# Altium integrated library Cypress PLD Delta39K.IntLib: 82 symbols (part 17 of 21)
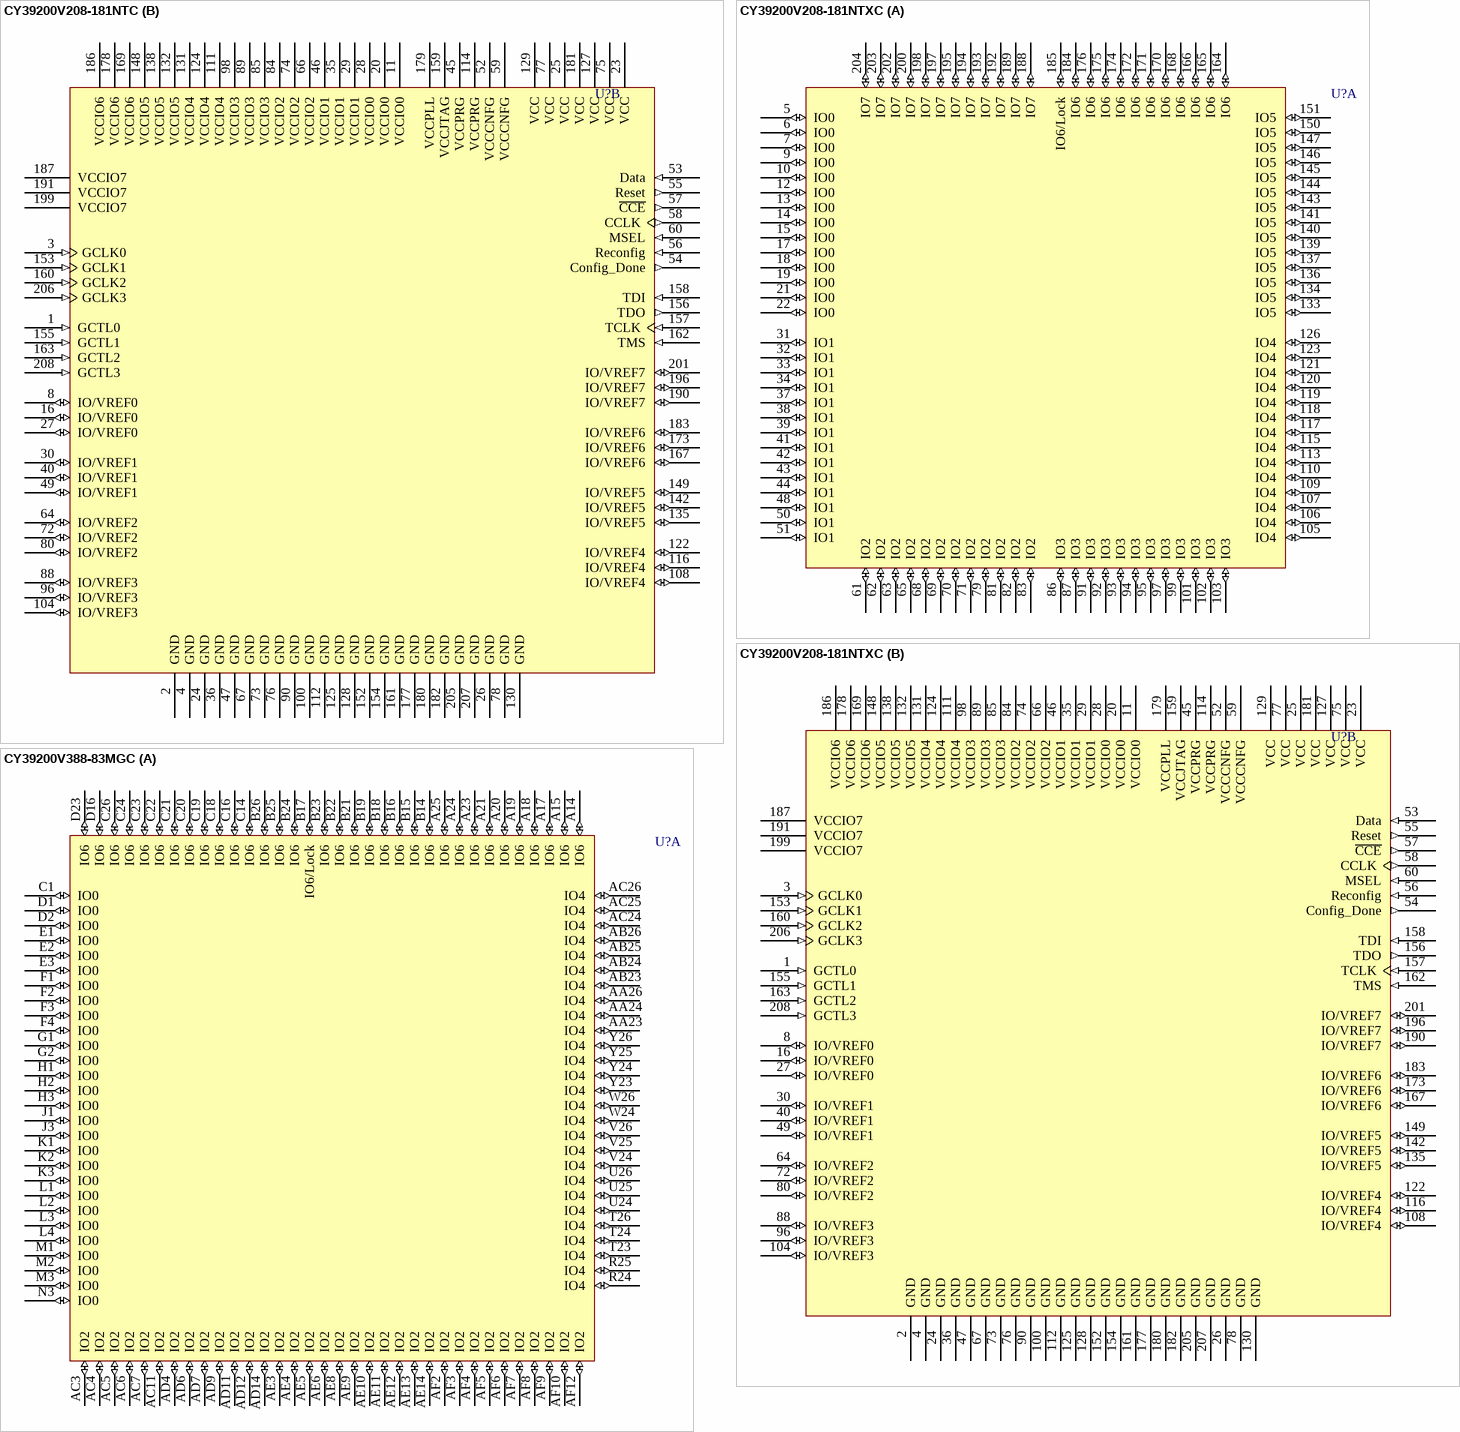
[diagram p94: symbols CY39200V208-181NTC to CY39200V388-83MGC]

## CY39200V208-181NTC
designator U?
Delta39K ISR CPLD, 3.3V/2.5V, 200K Gates, 181 MHz, 208-Lead EQFP, Commercial Grade; Published: 6-Oct-2005; LatestRevisionDate: 13-Apr-2006; LatestRevisionNote: IPC-7351 Footprint Added.; DatasheetVersion: revI, Mar-2005; PackageVersion: Mar-2002; PackageReference: NT208; Publisher: Altium Limited; PackageDescription: 208-Pin Plastic Shrink Quad Flat Pack 0.5 mm Pitch; ComponentLink1Description: Manufacturer Link; ComponentLink1URL: http://www.cypress.com/; ComponentLink2Description: Datasheet; ComponentLink2URL: http://www.cypress.com/portal/server.pt/gateway/PTARGS_0_601270_1522_209_0_43/http%3B/sjapp20.mis.cypress.com%3B7001/publishedcontent/publish/design_resources/datasheets/contents/cy39030v_5.pdf
footprint NT208_N (Shrink QFP, 208-Leads, Body 28x28mm, Pitch 0.5mm, IPC Medium Density)
footprint NT208_L (Shrink QFP, 208-Leads, Body 28x28mm, Pitch 0.5mm, IPC High Density)
footprint NT208_M (Shrink QFP, 208-Leads, Body 28x28mm, Pitch 0.5mm, IPC Low Density)
3D model CY39200V208-NT208 (208-Pin Plastic Shrink Quad Flat Pack 0.5 mm Pitch)
part A pins: 5 IO0 (io) "IO for Bank 0", 6 IO0 (io) "IO for Bank 0", 7 IO0 (io) "IO for Bank 0", 9 IO0 (io) "IO for Bank 0", 10 IO0 (io) "IO for Bank 0", 12 IO0 (io) "IO for Bank 0", 13 IO0 (io) "IO for Bank 0", 14 IO0 (io) "IO for Bank 0", 15 IO0 (io) "IO for Bank 0", 17 IO0 (io) "IO for Bank 0", 18 IO0 (io) "IO for Bank 0", 19 IO0 (io) "IO for Bank 0", 21 IO0 (io) "IO for Bank 0", 22 IO0 (io) "IO for Bank 0", 31 IO1 (io) "IO for Bank 1", 32 IO1 (io) "IO for Bank 1", 33 IO1 (io) "IO for Bank 1", 34 IO1 (io) "IO for Bank 1", 37 IO1 (io) "IO for Bank 1", 38 IO1 (io) "IO for Bank 1", 39 IO1 (io) "IO for Bank 1", 41 IO1 (io) "IO for Bank 1", 42 IO1 (io) "IO for Bank 1", 43 IO1 (io) "IO for Bank 1", 44 IO1 (io) "IO for Bank 1", 48 IO1 (io) "IO for Bank 1", 50 IO1 (io) "IO for Bank 1", 51 IO1 (io) "IO for Bank 1", 61 IO2 (io) "IO for Bank 2", 62 IO2 (io) "IO for Bank 2", 63 IO2 (io) "IO for Bank 2", 65 IO2 (io) "IO for Bank 2", 68 IO2 (io) "IO for Bank 2", 69 IO2 (io) "IO for Bank 2", 70 IO2 (io) "IO for Bank 2", 71 IO2 (io) "IO for Bank 2", 79 IO2 (io) "IO for Bank 2", 81 IO2 (io) "IO for Bank 2", 82 IO2 (io) "IO for Bank 2", 83 IO2 (io) "IO for Bank 2", 86 IO3 (io) "IO for Bank 3", 87 IO3 (io) "IO for Bank 3", 91 IO3 (io) "IO for Bank 3", 92 IO3 (io) "IO for Bank 3", 93 IO3 (io) "IO for Bank 3", 94 IO3 (io) "IO for Bank 3", 95 IO3 (io) "IO for Bank 3", 97 IO3 (io) "IO for Bank 3", 99 IO3 (io) "IO for Bank 3", 101 IO3 (io) "IO for Bank 3", 102 IO3 (io) "IO for Bank 3", 103 IO3 (io) "IO for Bank 3", 105 IO4 (io) "IO for Bank 4", 106 IO4 (io) "IO for Bank 4", 107 IO4 (io) "IO for Bank 4", 109 IO4 (io) "IO for Bank 4", 110 IO4 (io) "IO for Bank 4", 113 IO4 (io) "IO for Bank 4", 115 IO4 (io) "IO for Bank 4", 117 IO4 (io) "IO for Bank 4", 118 IO4 (io) "IO for Bank 4", 119 IO4 (io) "IO for Bank 4", 120 IO4 (io) "IO for Bank 4", 121 IO4 (io) "IO for Bank 4", 123 IO4 (io) "IO for Bank 4", 126 IO4 (io) "IO for Bank 4", 133 IO5 (io) "IO for Bank 5", 134 IO5 (io) "IO for Bank 5", 136 IO5 (io) "IO for Bank 5", 137 IO5 (io) "IO for Bank 5", 139 IO5 (io) "IO for Bank 5", 140 IO5 (io) "IO for Bank 5", 141 IO5 (io) "IO for Bank 5", 143 IO5 (io) "IO for Bank 5", 144 IO5 (io) "IO for Bank 5", 145 IO5 (io) "IO for Bank 5", 146 IO5 (io) "IO for Bank 5", 147 IO5 (io) "IO for Bank 5", 150 IO5 (io) "IO for Bank 5", 151 IO5 (io) "IO for Bank 5", 164 IO6 (io) "IO for Bank 6", 165 IO6 (io) "IO for Bank 6", 166 IO6 (io) "IO for Bank 6", 168 IO6 (io) "IO for Bank 6", 170 IO6 (io) "IO for Bank 6", 171 IO6 (io) "IO for Bank 6", 172 IO6 (io) "IO for Bank 6", 174 IO6 (io) "IO for Bank 6", 175 IO6 (io) "IO for Bank 6", 176 IO6 (io) "IO for Bank 6", 184 IO6 (io) "IO for Bank 6", 185 IO6/Lock (io) "IO in Bank 6 or PLL lock output signal", 188 IO7 (io) "IO for Bank 7", 189 IO7 (io) "IO for Bank 7", 192 IO7 (io) "IO for Bank 7", 193 IO7 (io) "IO for Bank 7", 194 IO7 (io) "IO for Bank 7", 195 IO7 (io) "IO for Bank 7", 197 IO7 (io) "IO for Bank 7", 198 IO7 (io) "IO for Bank 7", 200 IO7 (io) "IO for Bank 7", 202 IO7 (io) "IO for Bank 7", 203 IO7 (io) "IO for Bank 7", 204 IO7 (io) "IO for Bank 7"
part B pins: 1 GCTL0 (in) "Global Control signal 0", 2 GND (power) "Ground", 3 GCLK0 (in) "Global Clock signal 0", 4 GND (power) "Ground", 8 IO/VREF0 (io) "IO or Reference Voltage for Bank 0", 11 VCCIO0 (power) "VCC for I/O bank 0", 16 IO/VREF0 (io) "IO or Reference Voltage for Bank 0", 20 VCCIO0 (power) "VCC for I/O bank 0", 23 VCC (power) "Operating Voltage", 24 GND (power) "Ground", 25 VCC (power) "Operating Voltage", 26 GND (power) "Ground", 27 IO/VREF0 (io) "IO or Reference Voltage for Bank 0", 28 VCCIO0 (power) "VCC for I/O bank 0", 29 VCCIO1 (power) "VCC for I/O bank 1", 30 IO/VREF1 (io) "IO or Reference Voltage for Bank 1", 35 VCCIO1 (power) "VCC for I/O bank 1", 36 GND (power) "Ground", 40 IO/VREF1 (io) "IO or Reference Voltage for Bank 1", 45 VCCPRG (power) "VCC for programming Self-Boot solution embedded boot PROM", 46 VCCIO1 (power) "VCC for I/O bank 1", 47 GND (power) "Ground", 49 IO/VREF1 (io) "IO or Reference Voltage for Bank 1", 52 VCCCNFG (power) "VCC for Configuration port", 53 Data (in) "Pin to receive configuration data from the external boot PROM", 54 Config_Done (out) "Flag indicating that configuration is complete", 55 Reset (out) "Reset signal to interface with the external boot PROM", 56 Reconfig (in) "Pin to start configuration of Delta39K", 57 ~{CCE} (out) "Chip select for the external boot PROM (active low)", 58 CCLK (out) "Configuration Clock for serial interface with the external boot PROM", 59 VCCCNFG (power) "VCC for Configuration port", 60 MSEL (in) "Mode Select Pin", 64 IO/VREF2 (io) "IO or Reference Voltage for Bank 2", 66 VCCIO2 (power) "VCC for I/O bank 2", 67 GND (power) "Ground", 72 IO/VREF2 (io) "IO or Reference Voltage for Bank 2", 73 GND (power) "Ground", 74 VCCIO2 (power) "VCC for I/O bank 2", 75 VCC (power) "Operating Voltage", 76 GND (power) "Ground", 77 VCC (power) "Operating Voltage", 78 GND (power) "Ground", 80 IO/VREF2 (io) "IO or Reference Voltage for Bank 2", 84 VCCIO2 (power) "VCC for I/O bank 2", 85 VCCIO3 (power) "VCC for I/O bank 3", 88 IO/VREF3 (io) "IO or Reference Voltage for Bank 3", 89 VCCIO3 (power) "VCC for I/O bank 3", 90 GND (power) "Ground", 96 IO/VREF3 (io) "IO or Reference Voltage for Bank 3", 98 VCCIO3 (power) "VCC for I/O bank 3", 100 GND (power) "Ground", 104 IO/VREF3 (io) "IO or Reference Voltage for Bank 3", 108 IO/VREF4 (io) "IO or Reference Voltage for Bank 4", 111 VCCIO4 (power) "VCC for I/O bank 4", 112 GND (power) "Ground", 114 VCCPRG (power) "VCC for programming Self-Boot solution embedded boot PROM", 116 IO/VREF4 (io) "IO or Reference Voltage for Bank 4", 122 IO/VREF4 (io) "IO or Reference Voltage for Bank 4", 124 VCCIO4 (power) "VCC for I/O bank 4", 125 GND (power) "Ground", 127 VCC (power) "Operating Voltage", 128 GND (power) "Ground", 129 VCC (power) "Operating Voltage", 130 GND (power) "Ground", 131 VCCIO4 (power) "VCC for I/O bank 4", 132 VCCIO5 (power) "VCC for I/O bank 5", 135 IO/VREF5 (io) "IO or Reference Voltage for Bank 5", 138 VCCIO5 (power) "VCC for I/O bank 5", 142 IO/VREF5 (io) "IO or Reference Voltage for Bank 5", 148 VCCIO5 (power) "VCC for I/O bank 5", 149 IO/VREF5 (io) "IO or Reference Voltage for Bank 5", 152 GND (power) "Ground", 153 GCLK1 (in) "Global Clock signal 1", 154 GND (power) "Ground", 155 GCTL1 (in) "Global Control signal 1", 156 TDO (out) "JTAG Test Data Out", 157 TCLK (in) "JTAG Test Clock", 158 TDI (in) "JTAG Test Data In", 159 VCCJTAG (power) "VCC for JTAG pins", 160 GCLK2 (in) "Global Clock signal 2", 161 GND (power) "Ground", 162 TMS (in) "JTAG Test Mode Select", 163 GCTL2 (in) "Global Control signal 2", 167 IO/VREF6 (io) "IO or Reference Voltage for Bank 6", 169 VCCIO6 (power) "VCC for I/O bank 6", 173 IO/VREF6 (io) "IO or Reference Voltage for Bank 6", 177 GND (power) "Ground", 178 VCCIO6 (power) "VCC for I/O bank 6", 179 VCCPLL (power) "VCC for PLL", 180 GND (power) "Ground", 181 VCC (power) "Operating Voltage", 182 GND (power) "Ground", 183 IO/VREF6 (io) "IO or Reference Voltage for Bank 6", 186 VCCIO6 (power) "VCC for I/O bank 6", 187 VCCIO7 (power) "VCC for I/O bank 7", 190 IO/VREF7 (io) "IO or Reference Voltage for Bank 7", 191 VCCIO7 (power) "VCC for I/O bank 7", 196 IO/VREF7 (io) "IO or Reference Voltage for Bank 7", 199 VCCIO7 (power) "VCC for I/O bank 7", 201 IO/VREF7 (io) "IO or Reference Voltage for Bank 7", 205 GND (power) "Ground", 206 GCLK3 (in) "Global Clock signal 3", 207 GND (power) "Ground", 208 GCTL3 (in) "Global Control signal 3"

## CY39200V208-181NTXC
designator U?
Delta39K ISR CPLD, 3.3V/2.5V, 200K Gates, 181 MHz, 208-Lead EQFP, Commercial Grade, Pb-Free; Published: 6-Oct-2005; LatestRevisionDate: 13-Apr-2006; LatestRevisionNote: IPC-7351 Footprint Added.; DatasheetVersion: revI, Mar-2005; PackageVersion: Mar-2002; PackageReference: NT208; Publisher: Altium Limited; PackageDescription: 208-Pin Plastic Shrink Quad Flat Pack 0.5 mm Pitch; ComponentLink1Description: Manufacturer Link; ComponentLink1URL: http://www.cypress.com/; ComponentLink2Description: Datasheet; ComponentLink2URL: http://www.cypress.com/portal/server.pt/gateway/PTARGS_0_601270_1522_209_0_43/http%3B/sjapp20.mis.cypress.com%3B7001/publishedcontent/publish/design_resources/datasheets/contents/cy39030v_5.pdf
footprint NT208_N (Shrink QFP, 208-Leads, Body 28x28mm, Pitch 0.5mm, IPC Medium Density)
footprint NT208_L (Shrink QFP, 208-Leads, Body 28x28mm, Pitch 0.5mm, IPC High Density)
footprint NT208_M (Shrink QFP, 208-Leads, Body 28x28mm, Pitch 0.5mm, IPC Low Density)
3D model CY39200V208-NT208 (208-Pin Plastic Shrink Quad Flat Pack 0.5 mm Pitch)
part A pins: 5 IO0 (io) "IO for Bank 0", 6 IO0 (io) "IO for Bank 0", 7 IO0 (io) "IO for Bank 0", 9 IO0 (io) "IO for Bank 0", 10 IO0 (io) "IO for Bank 0", 12 IO0 (io) "IO for Bank 0", 13 IO0 (io) "IO for Bank 0", 14 IO0 (io) "IO for Bank 0", 15 IO0 (io) "IO for Bank 0", 17 IO0 (io) "IO for Bank 0", 18 IO0 (io) "IO for Bank 0", 19 IO0 (io) "IO for Bank 0", 21 IO0 (io) "IO for Bank 0", 22 IO0 (io) "IO for Bank 0", 31 IO1 (io) "IO for Bank 1", 32 IO1 (io) "IO for Bank 1", 33 IO1 (io) "IO for Bank 1", 34 IO1 (io) "IO for Bank 1", 37 IO1 (io) "IO for Bank 1", 38 IO1 (io) "IO for Bank 1", 39 IO1 (io) "IO for Bank 1", 41 IO1 (io) "IO for Bank 1", 42 IO1 (io) "IO for Bank 1", 43 IO1 (io) "IO for Bank 1", 44 IO1 (io) "IO for Bank 1", 48 IO1 (io) "IO for Bank 1", 50 IO1 (io) "IO for Bank 1", 51 IO1 (io) "IO for Bank 1", 61 IO2 (io) "IO for Bank 2", 62 IO2 (io) "IO for Bank 2", 63 IO2 (io) "IO for Bank 2", 65 IO2 (io) "IO for Bank 2", 68 IO2 (io) "IO for Bank 2", 69 IO2 (io) "IO for Bank 2", 70 IO2 (io) "IO for Bank 2", 71 IO2 (io) "IO for Bank 2", 79 IO2 (io) "IO for Bank 2", 81 IO2 (io) "IO for Bank 2", 82 IO2 (io) "IO for Bank 2", 83 IO2 (io) "IO for Bank 2", 86 IO3 (io) "IO for Bank 3", 87 IO3 (io) "IO for Bank 3", 91 IO3 (io) "IO for Bank 3", 92 IO3 (io) "IO for Bank 3", 93 IO3 (io) "IO for Bank 3", 94 IO3 (io) "IO for Bank 3", 95 IO3 (io) "IO for Bank 3", 97 IO3 (io) "IO for Bank 3", 99 IO3 (io) "IO for Bank 3", 101 IO3 (io) "IO for Bank 3", 102 IO3 (io) "IO for Bank 3", 103 IO3 (io) "IO for Bank 3", 105 IO4 (io) "IO for Bank 4", 106 IO4 (io) "IO for Bank 4", 107 IO4 (io) "IO for Bank 4", 109 IO4 (io) "IO for Bank 4", 110 IO4 (io) "IO for Bank 4", 113 IO4 (io) "IO for Bank 4", 115 IO4 (io) "IO for Bank 4", 117 IO4 (io) "IO for Bank 4", 118 IO4 (io) "IO for Bank 4", 119 IO4 (io) "IO for Bank 4", 120 IO4 (io) "IO for Bank 4", 121 IO4 (io) "IO for Bank 4", 123 IO4 (io) "IO for Bank 4", 126 IO4 (io) "IO for Bank 4", 133 IO5 (io) "IO for Bank 5", 134 IO5 (io) "IO for Bank 5", 136 IO5 (io) "IO for Bank 5", 137 IO5 (io) "IO for Bank 5", 139 IO5 (io) "IO for Bank 5", 140 IO5 (io) "IO for Bank 5", 141 IO5 (io) "IO for Bank 5", 143 IO5 (io) "IO for Bank 5", 144 IO5 (io) "IO for Bank 5", 145 IO5 (io) "IO for Bank 5", 146 IO5 (io) "IO for Bank 5", 147 IO5 (io) "IO for Bank 5", 150 IO5 (io) "IO for Bank 5", 151 IO5 (io) "IO for Bank 5", 164 IO6 (io) "IO for Bank 6", 165 IO6 (io) "IO for Bank 6", 166 IO6 (io) "IO for Bank 6", 168 IO6 (io) "IO for Bank 6", 170 IO6 (io) "IO for Bank 6", 171 IO6 (io) "IO for Bank 6", 172 IO6 (io) "IO for Bank 6", 174 IO6 (io) "IO for Bank 6", 175 IO6 (io) "IO for Bank 6", 176 IO6 (io) "IO for Bank 6", 184 IO6 (io) "IO for Bank 6", 185 IO6/Lock (io) "IO in Bank 6 or PLL lock output signal", 188 IO7 (io) "IO for Bank 7", 189 IO7 (io) "IO for Bank 7", 192 IO7 (io) "IO for Bank 7", 193 IO7 (io) "IO for Bank 7", 194 IO7 (io) "IO for Bank 7", 195 IO7 (io) "IO for Bank 7", 197 IO7 (io) "IO for Bank 7", 198 IO7 (io) "IO for Bank 7", 200 IO7 (io) "IO for Bank 7", 202 IO7 (io) "IO for Bank 7", 203 IO7 (io) "IO for Bank 7", 204 IO7 (io) "IO for Bank 7"
part B pins: 1 GCTL0 (in) "Global Control signal 0", 2 GND (power) "Ground", 3 GCLK0 (in) "Global Clock signal 0", 4 GND (power) "Ground", 8 IO/VREF0 (io) "IO or Reference Voltage for Bank 0", 11 VCCIO0 (power) "VCC for I/O bank 0", 16 IO/VREF0 (io) "IO or Reference Voltage for Bank 0", 20 VCCIO0 (power) "VCC for I/O bank 0", 23 VCC (power) "Operating Voltage", 24 GND (power) "Ground", 25 VCC (power) "Operating Voltage", 26 GND (power) "Ground", 27 IO/VREF0 (io) "IO or Reference Voltage for Bank 0", 28 VCCIO0 (power) "VCC for I/O bank 0", 29 VCCIO1 (power) "VCC for I/O bank 1", 30 IO/VREF1 (io) "IO or Reference Voltage for Bank 1", 35 VCCIO1 (power) "VCC for I/O bank 1", 36 GND (power) "Ground", 40 IO/VREF1 (io) "IO or Reference Voltage for Bank 1", 45 VCCPRG (power) "VCC for programming Self-Boot solution embedded boot PROM", 46 VCCIO1 (power) "VCC for I/O bank 1", 47 GND (power) "Ground", 49 IO/VREF1 (io) "IO or Reference Voltage for Bank 1", 52 VCCCNFG (power) "VCC for Configuration port", 53 Data (in) "Pin to receive configuration data from the external boot PROM", 54 Config_Done (out) "Flag indicating that configuration is complete", 55 Reset (out) "Reset signal to interface with the external boot PROM", 56 Reconfig (in) "Pin to start configuration of Delta39K", 57 ~{CCE} (out) "Chip select for the external boot PROM (active low)", 58 CCLK (out) "Configuration Clock for serial interface with the external boot PROM", 59 VCCCNFG (power) "VCC for Configuration port", 60 MSEL (in) "Mode Select Pin", 64 IO/VREF2 (io) "IO or Reference Voltage for Bank 2", 66 VCCIO2 (power) "VCC for I/O bank 2", 67 GND (power) "Ground", 72 IO/VREF2 (io) "IO or Reference Voltage for Bank 2", 73 GND (power) "Ground", 74 VCCIO2 (power) "VCC for I/O bank 2", 75 VCC (power) "Operating Voltage", 76 GND (power) "Ground", 77 VCC (power) "Operating Voltage", 78 GND (power) "Ground", 80 IO/VREF2 (io) "IO or Reference Voltage for Bank 2", 84 VCCIO2 (power) "VCC for I/O bank 2", 85 VCCIO3 (power) "VCC for I/O bank 3", 88 IO/VREF3 (io) "IO or Reference Voltage for Bank 3", 89 VCCIO3 (power) "VCC for I/O bank 3", 90 GND (power) "Ground", 96 IO/VREF3 (io) "IO or Reference Voltage for Bank 3", 98 VCCIO3 (power) "VCC for I/O bank 3", 100 GND (power) "Ground", 104 IO/VREF3 (io) "IO or Reference Voltage for Bank 3", 108 IO/VREF4 (io) "IO or Reference Voltage for Bank 4", 111 VCCIO4 (power) "VCC for I/O bank 4", 112 GND (power) "Ground", 114 VCCPRG (power) "VCC for programming Self-Boot solution embedded boot PROM", 116 IO/VREF4 (io) "IO or Reference Voltage for Bank 4", 122 IO/VREF4 (io) "IO or Reference Voltage for Bank 4", 124 VCCIO4 (power) "VCC for I/O bank 4", 125 GND (power) "Ground", 127 VCC (power) "Operating Voltage", 128 GND (power) "Ground", 129 VCC (power) "Operating Voltage", 130 GND (power) "Ground", 131 VCCIO4 (power) "VCC for I/O bank 4", 132 VCCIO5 (power) "VCC for I/O bank 5", 135 IO/VREF5 (io) "IO or Reference Voltage for Bank 5", 138 VCCIO5 (power) "VCC for I/O bank 5", 142 IO/VREF5 (io) "IO or Reference Voltage for Bank 5", 148 VCCIO5 (power) "VCC for I/O bank 5", 149 IO/VREF5 (io) "IO or Reference Voltage for Bank 5", 152 GND (power) "Ground", 153 GCLK1 (in) "Global Clock signal 1", 154 GND (power) "Ground", 155 GCTL1 (in) "Global Control signal 1", 156 TDO (out) "JTAG Test Data Out", 157 TCLK (in) "JTAG Test Clock", 158 TDI (in) "JTAG Test Data In", 159 VCCJTAG (power) "VCC for JTAG pins", 160 GCLK2 (in) "Global Clock signal 2", 161 GND (power) "Ground", 162 TMS (in) "JTAG Test Mode Select", 163 GCTL2 (in) "Global Control signal 2", 167 IO/VREF6 (io) "IO or Reference Voltage for Bank 6", 169 VCCIO6 (power) "VCC for I/O bank 6", 173 IO/VREF6 (io) "IO or Reference Voltage for Bank 6", 177 GND (power) "Ground", 178 VCCIO6 (power) "VCC for I/O bank 6", 179 VCCPLL (power) "VCC for PLL", 180 GND (power) "Ground", 181 VCC (power) "Operating Voltage", 182 GND (power) "Ground", 183 IO/VREF6 (io) "IO or Reference Voltage for Bank 6", 186 VCCIO6 (power) "VCC for I/O bank 6", 187 VCCIO7 (power) "VCC for I/O bank 7", 190 IO/VREF7 (io) "IO or Reference Voltage for Bank 7", 191 VCCIO7 (power) "VCC for I/O bank 7", 196 IO/VREF7 (io) "IO or Reference Voltage for Bank 7", 199 VCCIO7 (power) "VCC for I/O bank 7", 201 IO/VREF7 (io) "IO or Reference Voltage for Bank 7", 205 GND (power) "Ground", 206 GCLK3 (in) "Global Clock signal 3", 207 GND (power) "Ground", 208 GCTL3 (in) "Global Control signal 3"

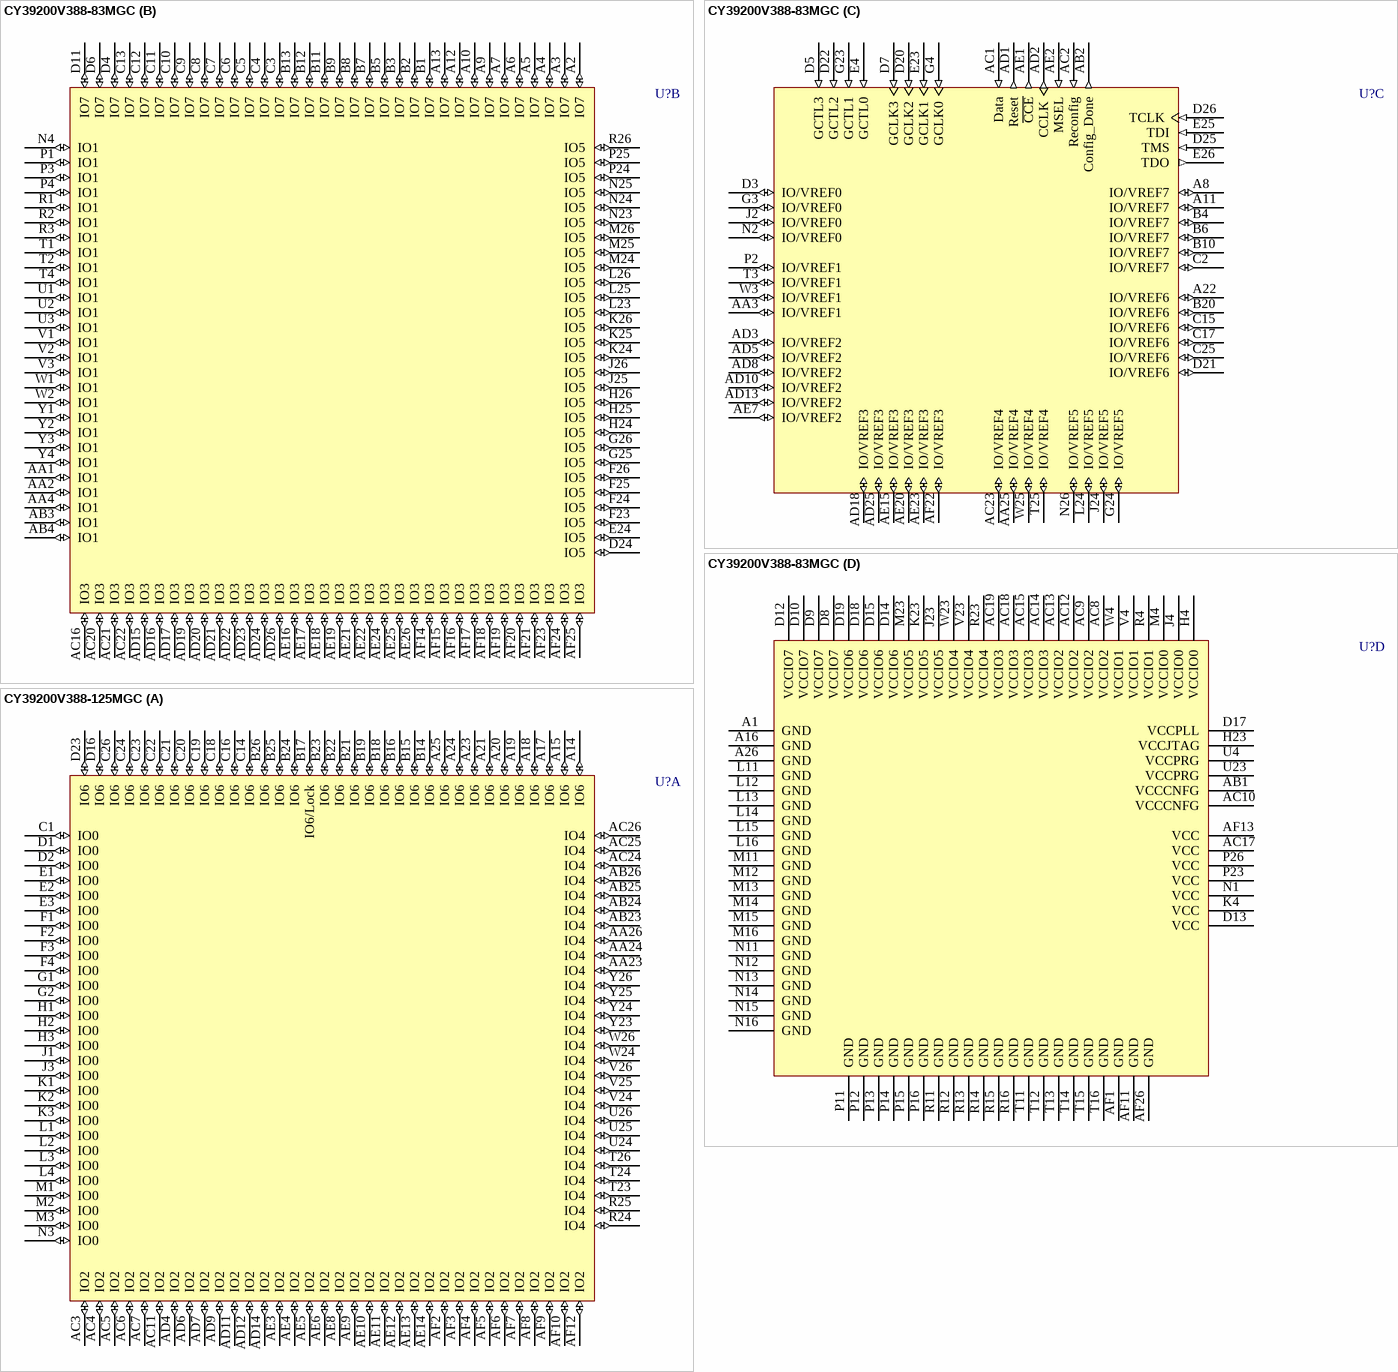
[diagram p57: symbols CY39200V388-83MGC to CY39200V388-125MGC]

## CY39200V388-83MGC
designator U?
Delta39K ISR CPLD, 3.3V/2.5V, 200K Gates, 83 MHz, 388-Ball BGA, Commercial Grade; Published: 11-Dec-2002; LatestRevisionDate: 13-Apr-2006; LatestRevisionNote: IPC-7351 Footprint Added.; DatasheetVersion: revI, Mar-2005; PackageVersion: Mar-2005; PackageReference: MG388; Publisher: Altium Limited; PackageDescription: 388-Ball Ball Grid Array 1.27 mm Pitch; ComponentLink1Description: Manufacturer Link; ComponentLink1URL: http://www.cypress.com/; ComponentLink2Description: Datasheet; ComponentLink2URL: http://www.cypress.com/portal/server.pt/gateway/PTARGS_0_601270_1522_209_0_43/http%3B/sjapp20.mis.cypress.com%3B7001/publishedcontent/publish/design_resources/datasheets/contents/cy39030v_5.pdf
footprint MG388 (BGA, 388-Leads, Body 35x35mm, Pitch 1.27mm)
3D model CY39200V388-MG388 (388-Ball Ball Grid Array 1.27 mm Pitch)
part A pins: A14 IO6 (io) "IO for Bank 6", A15 IO6 (io) "IO for Bank 6", A17 IO6 (io) "IO for Bank 6", A18 IO6 (io) "IO for Bank 6", A19 IO6 (io) "IO for Bank 6", A20 IO6 (io) "IO for Bank 6", A21 IO6 (io) "IO for Bank 6", A23 IO6 (io) "IO for Bank 6", A24 IO6 (io) "IO for Bank 6", A25 IO6 (io) "IO for Bank 6", AA23 IO4 (io) "IO for Bank 4", AA24 IO4 (io) "IO for Bank 4", AA26 IO4 (io) "IO for Bank 4", AB23 IO4 (io) "IO for Bank 4", AB24 IO4 (io) "IO for Bank 4", AB25 IO4 (io) "IO for Bank 4", AB26 IO4 (io) "IO for Bank 4", AC3 IO2 (io) "IO for Bank 2", AC4 IO2 (io) "IO for Bank 2", AC5 IO2 (io) "IO for Bank 2", AC6 IO2 (io) "IO for Bank 2", AC7 IO2 (io) "IO for Bank 2", AC11 IO2 (io) "IO for Bank 2", AC24 IO4 (io) "IO for Bank 4", AC25 IO4 (io) "IO for Bank 4", AC26 IO4 (io) "IO for Bank 4", AD4 IO2 (io) "IO for Bank 2", AD6 IO2 (io) "IO for Bank 2", AD7 IO2 (io) "IO for Bank 2", AD9 IO2 (io) "IO for Bank 2", AD11 IO2 (io) "IO for Bank 2", AD12 IO2 (io) "IO for Bank 2", AD14 IO2 (io) "IO for Bank 2", AE3 IO2 (io) "IO for Bank 2", AE4 IO2 (io) "IO for Bank 2", AE5 IO2 (io) "IO for Bank 2", AE6 IO2 (io) "IO for Bank 2", AE8 IO2 (io) "IO for Bank 2", AE9 IO2 (io) "IO for Bank 2", AE10 IO2 (io) "IO for Bank 2", AE11 IO2 (io) "IO for Bank 2", AE12 IO2 (io) "IO for Bank 2", AE13 IO2 (io) "IO for Bank 2", AE14 IO2 (io) "IO for Bank 2", AF2 IO2 (io) "IO for Bank 2", AF3 IO2 (io) "IO for Bank 2", AF4 IO2 (io) "IO for Bank 2", AF5 IO2 (io) "IO for Bank 2", AF6 IO2 (io) "IO for Bank 2", AF7 IO2 (io) "IO for Bank 2", AF8 IO2 (io) "IO for Bank 2", AF9 IO2 (io) "IO for Bank 2", AF10 IO2 (io) "IO for Bank 2", AF12 IO2 (io) "IO for Bank 2", B14 IO6 (io) "IO for Bank 6", B15 IO6 (io) "IO for Bank 6", B16 IO6 (io) "IO for Bank 6", B17 IO6/Lock (io) "IO in Bank 6 or PLL lock output signal", B18 IO6 (io) "IO for Bank 6", B19 IO6 (io) "IO for Bank 6", B21 IO6 (io) "IO for Bank 6", B22 IO6 (io) "IO for Bank 6", B23 IO6 (io) "IO for Bank 6", B24 IO6 (io) "IO for Bank 6", B25 IO6 (io) "IO for Bank 6", B26 IO6 (io) "IO for Bank 6", C1 IO0 (io) "IO for Bank 0", C14 IO6 (io) "IO for Bank 6", C16 IO6 (io) "IO for Bank 6", C18 IO6 (io) "IO for Bank 6", C19 IO6 (io) "IO for Bank 6", C20 IO6 (io) "IO for Bank 6", C21 IO6 (io) "IO for Bank 6", C22 IO6 (io) "IO for Bank 6", C23 IO6 (io) "IO for Bank 6", C24 IO6 (io) "IO for Bank 6", C26 IO6 (io) "IO for Bank 6", D1 IO0 (io) "IO for Bank 0", D2 IO0 (io) "IO for Bank 0", D16 IO6 (io) "IO for Bank 6", D23 IO6 (io) "IO for Bank 6", E1 IO0 (io) "IO for Bank 0", E2 IO0 (io) "IO for Bank 0", E3 IO0 (io) "IO for Bank 0", F1 IO0 (io) "IO for Bank 0", F2 IO0 (io) "IO for Bank 0", F3 IO0 (io) "IO for Bank 0", F4 IO0 (io) "IO for Bank 0", G1 IO0 (io) "IO for Bank 0", G2 IO0 (io) "IO for Bank 0", H1 IO0 (io) "IO for Bank 0", H2 IO0 (io) "IO for Bank 0", H3 IO0 (io) "IO for Bank 0", J1 IO0 (io) "IO for Bank 0", J3 IO0 (io) "IO for Bank 0", K1 IO0 (io) "IO for Bank 0", K2 IO0 (io) "IO for Bank 0", K3 IO0 (io) "IO for Bank 0", L1 IO0 (io) "IO for Bank 0", L2 IO0 (io) "IO for Bank 0", L3 IO0 (io) "IO for Bank 0", L4 IO0 (io) "IO for Bank 0", M1 IO0 (io) "IO for Bank 0", M2 IO0 (io) "IO for Bank 0", M3 IO0 (io) "IO for Bank 0", N3 IO0 (io) "IO for Bank 0", R24 IO4 (io) "IO for Bank 4", R25 IO4 (io) "IO for Bank 4", T23 IO4 (io) "IO for Bank 4", T24 IO4 (io) "IO for Bank 4", T26 IO4 (io) "IO for Bank 4", U24 IO4 (io) "IO for Bank 4", U25 IO4 (io) "IO for Bank 4", U26 IO4 (io) "IO for Bank 4", V24 IO4 (io) "IO for Bank 4", V25 IO4 (io) "IO for Bank 4", V26 IO4 (io) "IO for Bank 4", W24 IO4 (io) "IO for Bank 4", W26 IO4 (io) "IO for Bank 4", Y23 IO4 (io) "IO for Bank 4", Y24 IO4 (io) "IO for Bank 4", Y25 IO4 (io) "IO for Bank 4", Y26 IO4 (io) "IO for Bank 4"
part B pins: A2 IO7 (io) "IO for Bank 7", A3 IO7 (io) "IO for Bank 7", A4 IO7 (io) "IO for Bank 7", A5 IO7 (io) "IO for Bank 7", A6 IO7 (io) "IO for Bank 7", A7 IO7 (io) "IO for Bank 7", A9 IO7 (io) "IO for Bank 7", A10 IO7 (io) "IO for Bank 7", A12 IO7 (io) "IO for Bank 7", A13 IO7 (io) "IO for Bank 7", AA1 IO1 (io) "IO for Bank 1", AA2 IO1 (io) "IO for Bank 1", AA4 IO1 (io) "IO for Bank 1", AB3 IO1 (io) "IO for Bank 1", AB4 IO1 (io) "IO for Bank 1", AC16 IO3 (io) "IO for Bank 3", AC20 IO3 (io) "IO for Bank 3", AC21 IO3 (io) "IO for Bank 3", AC22 IO3 (io) "IO for Bank 3", AD15 IO3 (io) "IO for Bank 3", AD16 IO3 (io) "IO for Bank 3", AD17 IO3 (io) "IO for Bank 3", AD19 IO3 (io) "IO for Bank 3", AD20 IO3 (io) "IO for Bank 3", AD21 IO3 (io) "IO for Bank 3", AD22 IO3 (io) "IO for Bank 3", AD23 IO3 (io) "IO for Bank 3", AD24 IO3 (io) "IO for Bank 3", AD26 IO3 (io) "IO for Bank 3", AE16 IO3 (io) "IO for Bank 3", AE17 IO3 (io) "IO for Bank 3", AE18 IO3 (io) "IO for Bank 3", AE19 IO3 (io) "IO for Bank 3", AE21 IO3 (io) "IO for Bank 3", AE22 IO3 (io) "IO for Bank 3", AE24 IO3 (io) "IO for Bank 3", AE25 IO3 (io) "IO for Bank 3", AE26 IO3 (io) "IO for Bank 3", AF14 IO3 (io) "IO for Bank 3", AF15 IO3 (io) "IO for Bank 3", AF16 IO3 (io) "IO for Bank 3", AF17 IO3 (io) "IO for Bank 3", AF18 IO3 (io) "IO for Bank 3", AF19 IO3 (io) "IO for Bank 3", AF20 IO3 (io) "IO for Bank 3", AF21 IO3 (io) "IO for Bank 3", AF23 IO3 (io) "IO for Bank 3", AF24 IO3 (io) "IO for Bank 3", AF25 IO3 (io) "IO for Bank 3", B1 IO7 (io) "IO for Bank 7", B2 IO7 (io) "IO for Bank 7", B3 IO7 (io) "IO for Bank 7", B5 IO7 (io) "IO for Bank 7", B7 IO7 (io) "IO for Bank 7", B8 IO7 (io) "IO for Bank 7", B9 IO7 (io) "IO for Bank 7", B11 IO7 (io) "IO for Bank 7", B12 IO7 (io) "IO for Bank 7", B13 IO7 (io) "IO for Bank 7", C3 IO7 (io) "IO for Bank 7", C4 IO7 (io) "IO for Bank 7", C5 IO7 (io) "IO for Bank 7", C6 IO7 (io) "IO for Bank 7", C7 IO7 (io) "IO for Bank 7", C8 IO7 (io) "IO for Bank 7", C9 IO7 (io) "IO for Bank 7", C10 IO7 (io) "IO for Bank 7", C11 IO7 (io) "IO for Bank 7", C12 IO7 (io) "IO for Bank 7", C13 IO7 (io) "IO for Bank 7", D4 IO7 (io) "IO for Bank 7", D6 IO7 (io) "IO for Bank 7", D11 IO7 (io) "IO for Bank 7", D24 IO5 (io) "IO for Bank 5", E24 IO5 (io) "IO for Bank 5", F23 IO5 (io) "IO for Bank 5", F24 IO5 (io) "IO for Bank 5", F25 IO5 (io) "IO for Bank 5", F26 IO5 (io) "IO for Bank 5", G25 IO5 (io) "IO for Bank 5", G26 IO5 (io) "IO for Bank 5", H24 IO5 (io) "IO for Bank 5", H25 IO5 (io) "IO for Bank 5", H26 IO5 (io) "IO for Bank 5", J25 IO5 (io) "IO for Bank 5", J26 IO5 (io) "IO for Bank 5", K24 IO5 (io) "IO for Bank 5", K25 IO5 (io) "IO for Bank 5", K26 IO5 (io) "IO for Bank 5", L23 IO5 (io) "IO for Bank 5", L25 IO5 (io) "IO for Bank 5", L26 IO5 (io) "IO for Bank 5", M24 IO5 (io) "IO for Bank 5", M25 IO5 (io) "IO for Bank 5", M26 IO5 (io) "IO for Bank 5", N4 IO1 (io) "IO for Bank 1", N23 IO5 (io) "IO for Bank 5", N24 IO5 (io) "IO for Bank 5", N25 IO5 (io) "IO for Bank 5", P1 IO1 (io) "IO for Bank 1", P3 IO1 (io) "IO for Bank 1", P4 IO1 (io) "IO for Bank 1", P24 IO5 (io) "IO for Bank 5", P25 IO5 (io) "IO for Bank 5", R1 IO1 (io) "IO for Bank 1", R2 IO1 (io) "IO for Bank 1", R3 IO1 (io) "IO for Bank 1", R26 IO5 (io) "IO for Bank 5", T1 IO1 (io) "IO for Bank 1", T2 IO1 (io) "IO for Bank 1", T4 IO1 (io) "IO for Bank 1", U1 IO1 (io) "IO for Bank 1", U2 IO1 (io) "IO for Bank 1", U3 IO1 (io) "IO for Bank 1", V1 IO1 (io) "IO for Bank 1", V2 IO1 (io) "IO for Bank 1", V3 IO1 (io) "IO for Bank 1", W1 IO1 (io) "IO for Bank 1", W2 IO1 (io) "IO for Bank 1", Y1 IO1 (io) "IO for Bank 1", Y2 IO1 (io) "IO for Bank 1", Y3 IO1 (io) "IO for Bank 1", Y4 IO1 (io) "IO for Bank 1"
part C pins: A8 IO/VREF7 (io) "IO or Reference Voltage for Bank 7", A11 IO/VREF7 (io) "IO or Reference Voltage for Bank 7", A22 IO/VREF6 (io) "IO or Reference Voltage for Bank 6", AA3 IO/VREF1 (io) "IO or Reference Voltage for Bank 1", AA25 IO/VREF4 (io) "IO or Reference Voltage for Bank 4", AB2 Config_Done (out) "Flag indicating that configuration is complete", AC1 Data (in) "Pin to receive configuration data from the external boot PROM", AC2 Reconfig (in) "Pin to start configuration of Delta39K", AC23 IO/VREF4 (io) "IO or Reference Voltage for Bank 4", AD1 Reset (out) "Reset signal to interface with the external boot PROM", AD2 CCLK (out) "Configuration Clock for serial interface with the external boot PROM", AD3 IO/VREF2 (io) "IO or Reference Voltage for Bank 2", AD5 IO/VREF2 (io) "IO or Reference Voltage for Bank 2", AD8 IO/VREF2 (io) "IO or Reference Voltage for Bank 2", AD10 IO/VREF2 (io) "IO or Reference Voltage for Bank 2", AD13 IO/VREF2 (io) "IO or Reference Voltage for Bank 2", AD18 IO/VREF3 (io) "IO or Reference Voltage for Bank 3", AD25 IO/VREF3 (io) "IO or Reference Voltage for Bank 3", AE1 ~{CCE} (out) "Chip select for the external boot PROM (active low)", AE2 MSEL (in) "Mode Select Pin", AE7 IO/VREF2 (io) "IO or Reference Voltage for Bank 2", AE15 IO/VREF3 (io) "IO or Reference Voltage for Bank 3", AE20 IO/VREF3 (io) "IO or Reference Voltage for Bank 3", AE23 IO/VREF3 (io) "IO or Reference Voltage for Bank 3", AF22 IO/VREF3 (io) "IO or Reference Voltage for Bank 3", B4 IO/VREF7 (io) "IO or Reference Voltage for Bank 7", B6 IO/VREF7 (io) "IO or Reference Voltage for Bank 7", B10 IO/VREF7 (io) "IO or Reference Voltage for Bank 7", B20 IO/VREF6 (io) "IO or Reference Voltage for Bank 6", C2 IO/VREF7 (io) "IO or Reference Voltage for Bank 7", C15 IO/VREF6 (io) "IO or Reference Voltage for Bank 6", C17 IO/VREF6 (io) "IO or Reference Voltage for Bank 6", C25 IO/VREF6 (io) "IO or Reference Voltage for Bank 6", D3 IO/VREF0 (io) "IO or Reference Voltage for Bank 0", D5 GCTL3 (in) "Global Control signal 3", D7 GCLK3 (in) "Global Clock signal 3", D20 GCLK2 (in) "Global Clock signal 2", D21 IO/VREF6 (io) "IO or Reference Voltage for Bank 6", D22 GCTL2 (in) "Global Control signal 2", D25 TMS (in) "JTAG Test Mode Select", D26 TCLK (in) "JTAG Test Clock", E4 GCTL0 (in) "Global Control signal 0", E23 GCLK1 (in) "Global Clock signal 1", E25 TDI (in) "JTAG Test Data In", E26 TDO (out) "JTAG Test Data Out", G3 IO/VREF0 (io) "IO or Reference Voltage for Bank 0", G4 GCLK0 (in) "Global Clock signal 0", G23 GCTL1 (in) "Global Control signal 1", G24 IO/VREF5 (io) "IO or Reference Voltage for Bank 5", J2 IO/VREF0 (io) "IO or Reference Voltage for Bank 0", J24 IO/VREF5 (io) "IO or Reference Voltage for Bank 5", L24 IO/VREF5 (io) "IO or Reference Voltage for Bank 5", N2 IO/VREF0 (io) "IO or Reference Voltage for Bank 0", N26 IO/VREF5 (io) "IO or Reference Voltage for Bank 5", P2 IO/VREF1 (io) "IO or Reference Voltage for Bank 1", T3 IO/VREF1 (io) "IO or Reference Voltage for Bank 1", T25 IO/VREF4 (io) "IO or Reference Voltage for Bank 4", W3 IO/VREF1 (io) "IO or Reference Voltage for Bank 1", W25 IO/VREF4 (io) "IO or Reference Voltage for Bank 4"
part D pins: A1 GND (power) "Ground", A16 GND (power) "Ground", A26 GND (power) "Ground", AB1 VCCCNFG (power) "VCC for Configuration port", AC8 VCCIO2 (power) "VCC for I/O bank 2", AC9 VCCIO2 (power) "VCC for I/O bank 2", AC10 VCCCNFG (power) "VCC for Configuration port", AC12 VCCIO2 (power) "VCC for I/O bank 2", AC13 VCCIO2 (power) "VCC for I/O bank 2", AC14 VCCIO3 (power) "VCC for I/O bank 3", AC15 VCCIO3 (power) "VCC for I/O bank 3", AC17 VCC (power) "Operating Voltage", AC18 VCCIO3 (power) "VCC for I/O bank 3", AC19 VCCIO3 (power) "VCC for I/O bank 3", AF1 GND (power) "Ground", AF11 GND (power) "Ground", AF13 VCC (power) "Operating Voltage", AF26 GND (power) "Ground", D8 VCCIO7 (power) "VCC for I/O bank 7", D9 VCCIO7 (power) "VCC for I/O bank 7", D10 VCCIO7 (power) "VCC for I/O bank 7", D12 VCCIO7 (power) "VCC for I/O bank 7", D13 VCC (power) "Operating Voltage", D14 VCCIO6 (power) "VCC for I/O bank 6", D15 VCCIO6 (power) "VCC for I/O bank 6", D17 VCCPLL (power) "VCC for PLL", D18 VCCIO6 (power) "VCC for I/O bank 6", D19 VCCIO6 (power) "VCC for I/O bank 6", H4 VCCIO0 (power) "VCC for I/O bank 0", H23 VCCJTAG (power) "VCC for JTAG pins", J4 VCCIO0 (power) "VCC for I/O bank 0", J23 VCCIO5 (power) "VCC for I/O bank 5", K4 VCC (power) "Operating Voltage", K23 VCCIO5 (power) "VCC for I/O bank 5", L11 GND (power) "Ground", L12 GND (power) "Ground", L13 GND (power) "Ground", L14 GND (power) "Ground", L15 GND (power) "Ground", L16 GND (power) "Ground", M4 VCCIO0 (power) "VCC for I/O bank 0", M11 GND (power) "Ground", M12 GND (power) "Ground", M13 GND (power) "Ground", M14 GND (power) "Ground", M15 GND (power) "Ground", M16 GND (power) "Ground", M23 VCCIO5 (power) "VCC for I/O bank 5", N1 VCC (power) "Operating Voltage", N11 GND (power) "Ground", N12 GND (power) "Ground", N13 GND (power) "Ground", N14 GND (power) "Ground", N15 GND (power) "Ground", N16 GND (power) "Ground", P11 GND (power) "Ground", P12 GND (power) "Ground", P13 GND (power) "Ground", P14 GND (power) "Ground", P15 GND (power) "Ground", P16 GND (power) "Ground", P23 VCC (power) "Operating Voltage", P26 VCC (power) "Operating Voltage", R4 VCCIO1 (power) "VCC for I/O bank 1", R11 GND (power) "Ground", R12 GND (power) "Ground", R13 GND (power) "Ground", R14 GND (power) "Ground", R15 GND (power) "Ground", R16 GND (power) "Ground", R23 VCCIO4 (power) "VCC for I/O bank 4", T11 GND (power) "Ground", T12 GND (power) "Ground", T13 GND (power) "Ground", T14 GND (power) "Ground", T15 GND (power) "Ground", T16 GND (power) "Ground", U4 VCCPRG (power) "VCC for programming Self-Boot solution embedded boot PROM", U23 VCCPRG (power) "VCC for programming Self-Boot solution embedded boot PROM", V4 VCCIO1 (power) "VCC for I/O bank 1", V23 VCCIO4 (power) "VCC for I/O bank 4", W4 VCCIO1 (power) "VCC for I/O bank 1", W23 VCCIO4 (power) "VCC for I/O bank 4"

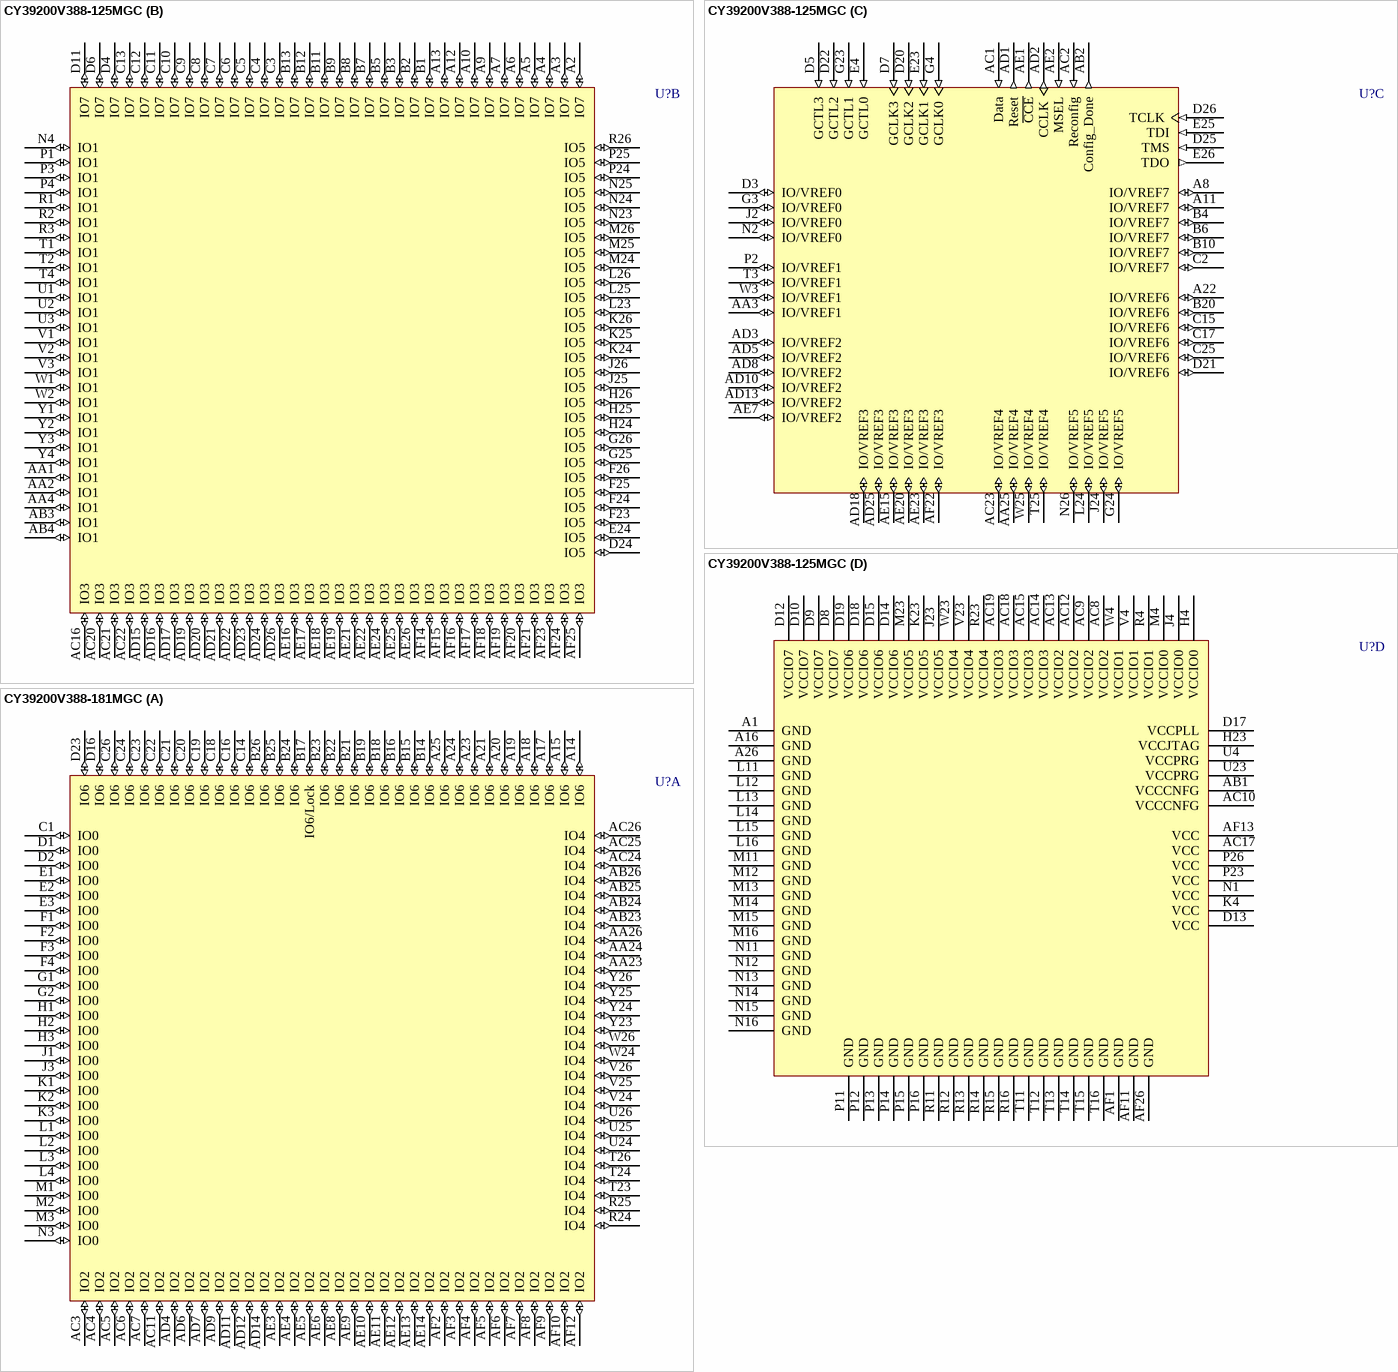
[diagram p58: symbols CY39200V388-125MGC to CY39200V388-181MGC]

## CY39200V388-125MGC
designator U?
Delta39K ISR CPLD, 3.3V/2.5V, 200K Gates, 125 MHz, 388-Ball BGA, Commercial Grade; Published: 11-Dec-2002; LatestRevisionDate: 13-Apr-2006; LatestRevisionNote: IPC-7351 Footprint Added.; DatasheetVersion: revI, Mar-2005; PackageVersion: Mar-2005; PackageReference: MG388; Publisher: Altium Limited; PackageDescription: 388-Ball Ball Grid Array 1.27 mm Pitch; ComponentLink1Description: Manufacturer Link; ComponentLink1URL: http://www.cypress.com/; ComponentLink2Description: Datasheet; ComponentLink2URL: http://www.cypress.com/portal/server.pt/gateway/PTARGS_0_601270_1522_209_0_43/http%3B/sjapp20.mis.cypress.com%3B7001/publishedcontent/publish/design_resources/datasheets/contents/cy39030v_5.pdf
footprint MG388 (BGA, 388-Leads, Body 35x35mm, Pitch 1.27mm)
3D model CY39200V388-MG388 (388-Ball Ball Grid Array 1.27 mm Pitch)
part A pins: A14 IO6 (io) "IO for Bank 6", A15 IO6 (io) "IO for Bank 6", A17 IO6 (io) "IO for Bank 6", A18 IO6 (io) "IO for Bank 6", A19 IO6 (io) "IO for Bank 6", A20 IO6 (io) "IO for Bank 6", A21 IO6 (io) "IO for Bank 6", A23 IO6 (io) "IO for Bank 6", A24 IO6 (io) "IO for Bank 6", A25 IO6 (io) "IO for Bank 6", AA23 IO4 (io) "IO for Bank 4", AA24 IO4 (io) "IO for Bank 4", AA26 IO4 (io) "IO for Bank 4", AB23 IO4 (io) "IO for Bank 4", AB24 IO4 (io) "IO for Bank 4", AB25 IO4 (io) "IO for Bank 4", AB26 IO4 (io) "IO for Bank 4", AC3 IO2 (io) "IO for Bank 2", AC4 IO2 (io) "IO for Bank 2", AC5 IO2 (io) "IO for Bank 2", AC6 IO2 (io) "IO for Bank 2", AC7 IO2 (io) "IO for Bank 2", AC11 IO2 (io) "IO for Bank 2", AC24 IO4 (io) "IO for Bank 4", AC25 IO4 (io) "IO for Bank 4", AC26 IO4 (io) "IO for Bank 4", AD4 IO2 (io) "IO for Bank 2", AD6 IO2 (io) "IO for Bank 2", AD7 IO2 (io) "IO for Bank 2", AD9 IO2 (io) "IO for Bank 2", AD11 IO2 (io) "IO for Bank 2", AD12 IO2 (io) "IO for Bank 2", AD14 IO2 (io) "IO for Bank 2", AE3 IO2 (io) "IO for Bank 2", AE4 IO2 (io) "IO for Bank 2", AE5 IO2 (io) "IO for Bank 2", AE6 IO2 (io) "IO for Bank 2", AE8 IO2 (io) "IO for Bank 2", AE9 IO2 (io) "IO for Bank 2", AE10 IO2 (io) "IO for Bank 2", AE11 IO2 (io) "IO for Bank 2", AE12 IO2 (io) "IO for Bank 2", AE13 IO2 (io) "IO for Bank 2", AE14 IO2 (io) "IO for Bank 2", AF2 IO2 (io) "IO for Bank 2", AF3 IO2 (io) "IO for Bank 2", AF4 IO2 (io) "IO for Bank 2", AF5 IO2 (io) "IO for Bank 2", AF6 IO2 (io) "IO for Bank 2", AF7 IO2 (io) "IO for Bank 2", AF8 IO2 (io) "IO for Bank 2", AF9 IO2 (io) "IO for Bank 2", AF10 IO2 (io) "IO for Bank 2", AF12 IO2 (io) "IO for Bank 2", B14 IO6 (io) "IO for Bank 6", B15 IO6 (io) "IO for Bank 6", B16 IO6 (io) "IO for Bank 6", B17 IO6/Lock (io) "IO in Bank 6 or PLL lock output signal", B18 IO6 (io) "IO for Bank 6", B19 IO6 (io) "IO for Bank 6", B21 IO6 (io) "IO for Bank 6", B22 IO6 (io) "IO for Bank 6", B23 IO6 (io) "IO for Bank 6", B24 IO6 (io) "IO for Bank 6", B25 IO6 (io) "IO for Bank 6", B26 IO6 (io) "IO for Bank 6", C1 IO0 (io) "IO for Bank 0", C14 IO6 (io) "IO for Bank 6", C16 IO6 (io) "IO for Bank 6", C18 IO6 (io) "IO for Bank 6", C19 IO6 (io) "IO for Bank 6", C20 IO6 (io) "IO for Bank 6", C21 IO6 (io) "IO for Bank 6", C22 IO6 (io) "IO for Bank 6", C23 IO6 (io) "IO for Bank 6", C24 IO6 (io) "IO for Bank 6", C26 IO6 (io) "IO for Bank 6", D1 IO0 (io) "IO for Bank 0", D2 IO0 (io) "IO for Bank 0", D16 IO6 (io) "IO for Bank 6", D23 IO6 (io) "IO for Bank 6", E1 IO0 (io) "IO for Bank 0", E2 IO0 (io) "IO for Bank 0", E3 IO0 (io) "IO for Bank 0", F1 IO0 (io) "IO for Bank 0", F2 IO0 (io) "IO for Bank 0", F3 IO0 (io) "IO for Bank 0", F4 IO0 (io) "IO for Bank 0", G1 IO0 (io) "IO for Bank 0", G2 IO0 (io) "IO for Bank 0", H1 IO0 (io) "IO for Bank 0", H2 IO0 (io) "IO for Bank 0", H3 IO0 (io) "IO for Bank 0", J1 IO0 (io) "IO for Bank 0", J3 IO0 (io) "IO for Bank 0", K1 IO0 (io) "IO for Bank 0", K2 IO0 (io) "IO for Bank 0", K3 IO0 (io) "IO for Bank 0", L1 IO0 (io) "IO for Bank 0", L2 IO0 (io) "IO for Bank 0", L3 IO0 (io) "IO for Bank 0", L4 IO0 (io) "IO for Bank 0", M1 IO0 (io) "IO for Bank 0", M2 IO0 (io) "IO for Bank 0", M3 IO0 (io) "IO for Bank 0", N3 IO0 (io) "IO for Bank 0", R24 IO4 (io) "IO for Bank 4", R25 IO4 (io) "IO for Bank 4", T23 IO4 (io) "IO for Bank 4", T24 IO4 (io) "IO for Bank 4", T26 IO4 (io) "IO for Bank 4", U24 IO4 (io) "IO for Bank 4", U25 IO4 (io) "IO for Bank 4", U26 IO4 (io) "IO for Bank 4", V24 IO4 (io) "IO for Bank 4", V25 IO4 (io) "IO for Bank 4", V26 IO4 (io) "IO for Bank 4", W24 IO4 (io) "IO for Bank 4", W26 IO4 (io) "IO for Bank 4", Y23 IO4 (io) "IO for Bank 4", Y24 IO4 (io) "IO for Bank 4", Y25 IO4 (io) "IO for Bank 4", Y26 IO4 (io) "IO for Bank 4"
part B pins: A2 IO7 (io) "IO for Bank 7", A3 IO7 (io) "IO for Bank 7", A4 IO7 (io) "IO for Bank 7", A5 IO7 (io) "IO for Bank 7", A6 IO7 (io) "IO for Bank 7", A7 IO7 (io) "IO for Bank 7", A9 IO7 (io) "IO for Bank 7", A10 IO7 (io) "IO for Bank 7", A12 IO7 (io) "IO for Bank 7", A13 IO7 (io) "IO for Bank 7", AA1 IO1 (io) "IO for Bank 1", AA2 IO1 (io) "IO for Bank 1", AA4 IO1 (io) "IO for Bank 1", AB3 IO1 (io) "IO for Bank 1", AB4 IO1 (io) "IO for Bank 1", AC16 IO3 (io) "IO for Bank 3", AC20 IO3 (io) "IO for Bank 3", AC21 IO3 (io) "IO for Bank 3", AC22 IO3 (io) "IO for Bank 3", AD15 IO3 (io) "IO for Bank 3", AD16 IO3 (io) "IO for Bank 3", AD17 IO3 (io) "IO for Bank 3", AD19 IO3 (io) "IO for Bank 3", AD20 IO3 (io) "IO for Bank 3", AD21 IO3 (io) "IO for Bank 3", AD22 IO3 (io) "IO for Bank 3", AD23 IO3 (io) "IO for Bank 3", AD24 IO3 (io) "IO for Bank 3", AD26 IO3 (io) "IO for Bank 3", AE16 IO3 (io) "IO for Bank 3", AE17 IO3 (io) "IO for Bank 3", AE18 IO3 (io) "IO for Bank 3", AE19 IO3 (io) "IO for Bank 3", AE21 IO3 (io) "IO for Bank 3", AE22 IO3 (io) "IO for Bank 3", AE24 IO3 (io) "IO for Bank 3", AE25 IO3 (io) "IO for Bank 3", AE26 IO3 (io) "IO for Bank 3", AF14 IO3 (io) "IO for Bank 3", AF15 IO3 (io) "IO for Bank 3", AF16 IO3 (io) "IO for Bank 3", AF17 IO3 (io) "IO for Bank 3", AF18 IO3 (io) "IO for Bank 3", AF19 IO3 (io) "IO for Bank 3", AF20 IO3 (io) "IO for Bank 3", AF21 IO3 (io) "IO for Bank 3", AF23 IO3 (io) "IO for Bank 3", AF24 IO3 (io) "IO for Bank 3", AF25 IO3 (io) "IO for Bank 3", B1 IO7 (io) "IO for Bank 7", B2 IO7 (io) "IO for Bank 7", B3 IO7 (io) "IO for Bank 7", B5 IO7 (io) "IO for Bank 7", B7 IO7 (io) "IO for Bank 7", B8 IO7 (io) "IO for Bank 7", B9 IO7 (io) "IO for Bank 7", B11 IO7 (io) "IO for Bank 7", B12 IO7 (io) "IO for Bank 7", B13 IO7 (io) "IO for Bank 7", C3 IO7 (io) "IO for Bank 7", C4 IO7 (io) "IO for Bank 7", C5 IO7 (io) "IO for Bank 7", C6 IO7 (io) "IO for Bank 7", C7 IO7 (io) "IO for Bank 7", C8 IO7 (io) "IO for Bank 7", C9 IO7 (io) "IO for Bank 7", C10 IO7 (io) "IO for Bank 7", C11 IO7 (io) "IO for Bank 7", C12 IO7 (io) "IO for Bank 7", C13 IO7 (io) "IO for Bank 7", D4 IO7 (io) "IO for Bank 7", D6 IO7 (io) "IO for Bank 7", D11 IO7 (io) "IO for Bank 7", D24 IO5 (io) "IO for Bank 5", E24 IO5 (io) "IO for Bank 5", F23 IO5 (io) "IO for Bank 5", F24 IO5 (io) "IO for Bank 5", F25 IO5 (io) "IO for Bank 5", F26 IO5 (io) "IO for Bank 5", G25 IO5 (io) "IO for Bank 5", G26 IO5 (io) "IO for Bank 5", H24 IO5 (io) "IO for Bank 5", H25 IO5 (io) "IO for Bank 5", H26 IO5 (io) "IO for Bank 5", J25 IO5 (io) "IO for Bank 5", J26 IO5 (io) "IO for Bank 5", K24 IO5 (io) "IO for Bank 5", K25 IO5 (io) "IO for Bank 5", K26 IO5 (io) "IO for Bank 5", L23 IO5 (io) "IO for Bank 5", L25 IO5 (io) "IO for Bank 5", L26 IO5 (io) "IO for Bank 5", M24 IO5 (io) "IO for Bank 5", M25 IO5 (io) "IO for Bank 5", M26 IO5 (io) "IO for Bank 5", N4 IO1 (io) "IO for Bank 1", N23 IO5 (io) "IO for Bank 5", N24 IO5 (io) "IO for Bank 5", N25 IO5 (io) "IO for Bank 5", P1 IO1 (io) "IO for Bank 1", P3 IO1 (io) "IO for Bank 1", P4 IO1 (io) "IO for Bank 1", P24 IO5 (io) "IO for Bank 5", P25 IO5 (io) "IO for Bank 5", R1 IO1 (io) "IO for Bank 1", R2 IO1 (io) "IO for Bank 1", R3 IO1 (io) "IO for Bank 1", R26 IO5 (io) "IO for Bank 5", T1 IO1 (io) "IO for Bank 1", T2 IO1 (io) "IO for Bank 1", T4 IO1 (io) "IO for Bank 1", U1 IO1 (io) "IO for Bank 1", U2 IO1 (io) "IO for Bank 1", U3 IO1 (io) "IO for Bank 1", V1 IO1 (io) "IO for Bank 1", V2 IO1 (io) "IO for Bank 1", V3 IO1 (io) "IO for Bank 1", W1 IO1 (io) "IO for Bank 1", W2 IO1 (io) "IO for Bank 1", Y1 IO1 (io) "IO for Bank 1", Y2 IO1 (io) "IO for Bank 1", Y3 IO1 (io) "IO for Bank 1", Y4 IO1 (io) "IO for Bank 1"
part C pins: A8 IO/VREF7 (io) "IO or Reference Voltage for Bank 7", A11 IO/VREF7 (io) "IO or Reference Voltage for Bank 7", A22 IO/VREF6 (io) "IO or Reference Voltage for Bank 6", AA3 IO/VREF1 (io) "IO or Reference Voltage for Bank 1", AA25 IO/VREF4 (io) "IO or Reference Voltage for Bank 4", AB2 Config_Done (out) "Flag indicating that configuration is complete", AC1 Data (in) "Pin to receive configuration data from the external boot PROM", AC2 Reconfig (in) "Pin to start configuration of Delta39K", AC23 IO/VREF4 (io) "IO or Reference Voltage for Bank 4", AD1 Reset (out) "Reset signal to interface with the external boot PROM", AD2 CCLK (out) "Configuration Clock for serial interface with the external boot PROM", AD3 IO/VREF2 (io) "IO or Reference Voltage for Bank 2", AD5 IO/VREF2 (io) "IO or Reference Voltage for Bank 2", AD8 IO/VREF2 (io) "IO or Reference Voltage for Bank 2", AD10 IO/VREF2 (io) "IO or Reference Voltage for Bank 2", AD13 IO/VREF2 (io) "IO or Reference Voltage for Bank 2", AD18 IO/VREF3 (io) "IO or Reference Voltage for Bank 3", AD25 IO/VREF3 (io) "IO or Reference Voltage for Bank 3", AE1 ~{CCE} (out) "Chip select for the external boot PROM (active low)", AE2 MSEL (in) "Mode Select Pin", AE7 IO/VREF2 (io) "IO or Reference Voltage for Bank 2", AE15 IO/VREF3 (io) "IO or Reference Voltage for Bank 3", AE20 IO/VREF3 (io) "IO or Reference Voltage for Bank 3", AE23 IO/VREF3 (io) "IO or Reference Voltage for Bank 3", AF22 IO/VREF3 (io) "IO or Reference Voltage for Bank 3", B4 IO/VREF7 (io) "IO or Reference Voltage for Bank 7", B6 IO/VREF7 (io) "IO or Reference Voltage for Bank 7", B10 IO/VREF7 (io) "IO or Reference Voltage for Bank 7", B20 IO/VREF6 (io) "IO or Reference Voltage for Bank 6", C2 IO/VREF7 (io) "IO or Reference Voltage for Bank 7", C15 IO/VREF6 (io) "IO or Reference Voltage for Bank 6", C17 IO/VREF6 (io) "IO or Reference Voltage for Bank 6", C25 IO/VREF6 (io) "IO or Reference Voltage for Bank 6", D3 IO/VREF0 (io) "IO or Reference Voltage for Bank 0", D5 GCTL3 (in) "Global Control signal 3", D7 GCLK3 (in) "Global Clock signal 3", D20 GCLK2 (in) "Global Clock signal 2", D21 IO/VREF6 (io) "IO or Reference Voltage for Bank 6", D22 GCTL2 (in) "Global Control signal 2", D25 TMS (in) "JTAG Test Mode Select", D26 TCLK (in) "JTAG Test Clock", E4 GCTL0 (in) "Global Control signal 0", E23 GCLK1 (in) "Global Clock signal 1", E25 TDI (in) "JTAG Test Data In", E26 TDO (out) "JTAG Test Data Out", G3 IO/VREF0 (io) "IO or Reference Voltage for Bank 0", G4 GCLK0 (in) "Global Clock signal 0", G23 GCTL1 (in) "Global Control signal 1", G24 IO/VREF5 (io) "IO or Reference Voltage for Bank 5", J2 IO/VREF0 (io) "IO or Reference Voltage for Bank 0", J24 IO/VREF5 (io) "IO or Reference Voltage for Bank 5", L24 IO/VREF5 (io) "IO or Reference Voltage for Bank 5", N2 IO/VREF0 (io) "IO or Reference Voltage for Bank 0", N26 IO/VREF5 (io) "IO or Reference Voltage for Bank 5", P2 IO/VREF1 (io) "IO or Reference Voltage for Bank 1", T3 IO/VREF1 (io) "IO or Reference Voltage for Bank 1", T25 IO/VREF4 (io) "IO or Reference Voltage for Bank 4", W3 IO/VREF1 (io) "IO or Reference Voltage for Bank 1", W25 IO/VREF4 (io) "IO or Reference Voltage for Bank 4"
part D pins: A1 GND (power) "Ground", A16 GND (power) "Ground", A26 GND (power) "Ground", AB1 VCCCNFG (power) "VCC for Configuration port", AC8 VCCIO2 (power) "VCC for I/O bank 2", AC9 VCCIO2 (power) "VCC for I/O bank 2", AC10 VCCCNFG (power) "VCC for Configuration port", AC12 VCCIO2 (power) "VCC for I/O bank 2", AC13 VCCIO2 (power) "VCC for I/O bank 2", AC14 VCCIO3 (power) "VCC for I/O bank 3", AC15 VCCIO3 (power) "VCC for I/O bank 3", AC17 VCC (power) "Operating Voltage", AC18 VCCIO3 (power) "VCC for I/O bank 3", AC19 VCCIO3 (power) "VCC for I/O bank 3", AF1 GND (power) "Ground", AF11 GND (power) "Ground", AF13 VCC (power) "Operating Voltage", AF26 GND (power) "Ground", D8 VCCIO7 (power) "VCC for I/O bank 7", D9 VCCIO7 (power) "VCC for I/O bank 7", D10 VCCIO7 (power) "VCC for I/O bank 7", D12 VCCIO7 (power) "VCC for I/O bank 7", D13 VCC (power) "Operating Voltage", D14 VCCIO6 (power) "VCC for I/O bank 6", D15 VCCIO6 (power) "VCC for I/O bank 6", D17 VCCPLL (power) "VCC for PLL", D18 VCCIO6 (power) "VCC for I/O bank 6", D19 VCCIO6 (power) "VCC for I/O bank 6", H4 VCCIO0 (power) "VCC for I/O bank 0", H23 VCCJTAG (power) "VCC for JTAG pins", J4 VCCIO0 (power) "VCC for I/O bank 0", J23 VCCIO5 (power) "VCC for I/O bank 5", K4 VCC (power) "Operating Voltage", K23 VCCIO5 (power) "VCC for I/O bank 5", L11 GND (power) "Ground", L12 GND (power) "Ground", L13 GND (power) "Ground", L14 GND (power) "Ground", L15 GND (power) "Ground", L16 GND (power) "Ground", M4 VCCIO0 (power) "VCC for I/O bank 0", M11 GND (power) "Ground", M12 GND (power) "Ground", M13 GND (power) "Ground", M14 GND (power) "Ground", M15 GND (power) "Ground", M16 GND (power) "Ground", M23 VCCIO5 (power) "VCC for I/O bank 5", N1 VCC (power) "Operating Voltage", N11 GND (power) "Ground", N12 GND (power) "Ground", N13 GND (power) "Ground", N14 GND (power) "Ground", N15 GND (power) "Ground", N16 GND (power) "Ground", P11 GND (power) "Ground", P12 GND (power) "Ground", P13 GND (power) "Ground", P14 GND (power) "Ground", P15 GND (power) "Ground", P16 GND (power) "Ground", P23 VCC (power) "Operating Voltage", P26 VCC (power) "Operating Voltage", R4 VCCIO1 (power) "VCC for I/O bank 1", R11 GND (power) "Ground", R12 GND (power) "Ground", R13 GND (power) "Ground", R14 GND (power) "Ground", R15 GND (power) "Ground", R16 GND (power) "Ground", R23 VCCIO4 (power) "VCC for I/O bank 4", T11 GND (power) "Ground", T12 GND (power) "Ground", T13 GND (power) "Ground", T14 GND (power) "Ground", T15 GND (power) "Ground", T16 GND (power) "Ground", U4 VCCPRG (power) "VCC for programming Self-Boot solution embedded boot PROM", U23 VCCPRG (power) "VCC for programming Self-Boot solution embedded boot PROM", V4 VCCIO1 (power) "VCC for I/O bank 1", V23 VCCIO4 (power) "VCC for I/O bank 4", W4 VCCIO1 (power) "VCC for I/O bank 1", W23 VCCIO4 (power) "VCC for I/O bank 4"

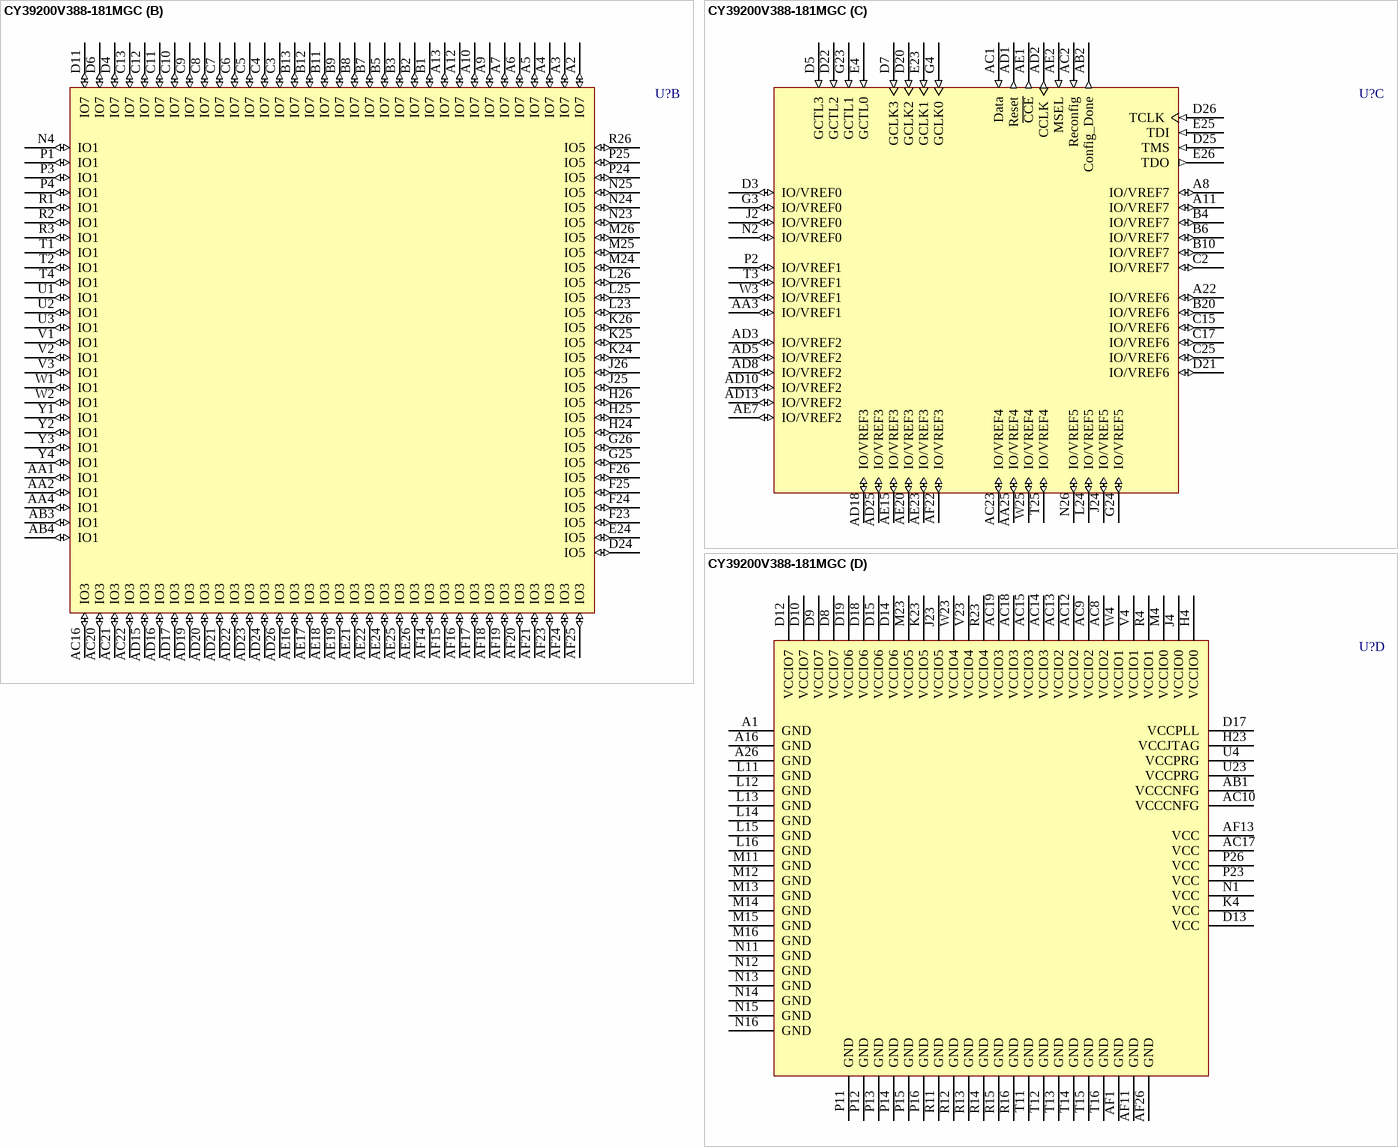
[diagram p59: symbol CY39200V388-181MGC]